# EAGLE library part CS4525 (library bnahill)
CS4525 - 30 W Digital Audio Amplifier with Integrated ADC
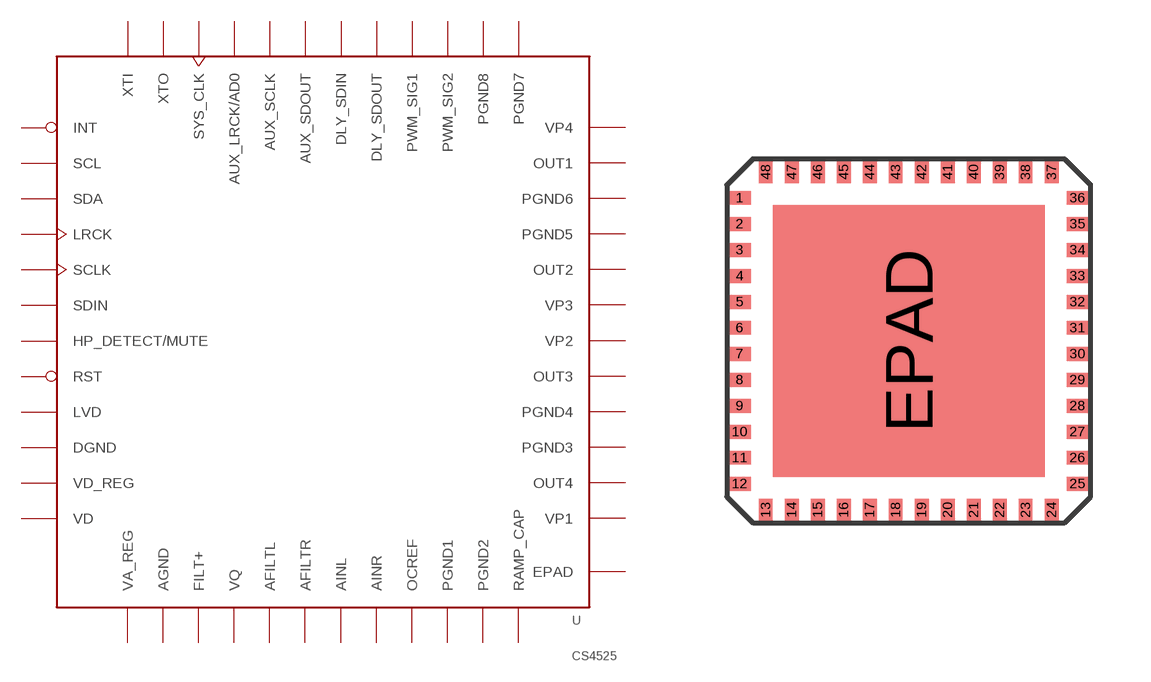
[diagram p6: symbol with the pads of QFN48-9X9; footprint QFN48-9X9]

Designator prefix -

## CS4525  [QFN48-9X9]
1  INT  in
2  SCL  in
3  SDA  in
4  LRCK  in
5  SCLK  in
6  SDIN  in
7  HP_DETECT/MUTE  in
8  RST  in
9  LVD  in
10  DGND  pwr
11  VD_REG  out
12  VD  pwr
13  VA_REG  out
14  AGND  pwr
15  FILT+  out
16  VQ  out
17  AFILTL  out
18  AFILTR  out
19  AINL  in
20  AINR  in
21  OCREF  in
22  PGND1  pwr
23  PGND2  pwr
24  RAMP_CAP  in
25  VP1  pwr
26  OUT4  out
27  PGND3  pwr
28  PGND4  pwr
29  OUT3  out
30  VP2  pwr
31  VP3  pwr
32  OUT2  out
33  PGND5  pwr
34  PGND6  pwr
35  OUT1  out
36  VP4  pwr
37  PGND7  pwr
38  PGND8  pwr
39  PWM_SIG2  out
40  PWM_SIG1  out
41  DLY_SDOUT  out
42  DLY_SDIN  out
43  AUX_SDOUT  out
44  AUX_SCLK  in
45  AUX_LRCK/AD0  in
46  SYS_CLK
47  XTO  out
48  XTI  in
EPAD  EPAD  pwr

## Footprint QFN48-9X9 (pad centres in mm)
smd 0.55 x 0.35: 1 -4.225,3.575; 2 -4.225,2.925; 3 -4.225,2.275; 4 -4.225,1.625; 5 -4.225,0.975; 6 -4.225,0.325; 7 -4.225,-0.325; 8 -4.225,-0.975; 9 -4.225,-1.625; 10 -4.225,-2.275; 11 -4.225,-2.925; 12 -4.225,-3.575; 25 4.225,-3.575; 26 4.225,-2.925; 27 4.225,-2.275; 28 4.225,-1.625; 29 4.225,-0.975; 30 4.225,-0.325; 31 4.225,0.325; 32 4.225,0.975; 33 4.225,1.625; 34 4.225,2.275; 35 4.225,2.925; 36 4.225,3.575
smd 0.35 x 0.55: 13 -3.575,-4.225; 14 -2.925,-4.225; 15 -2.275,-4.225; 16 -1.625,-4.225; 17 -0.975,-4.225; 18 -0.325,-4.225; 19 0.325,-4.225; 20 0.975,-4.225; 21 1.625,-4.225; 22 2.275,-4.225; 23 2.925,-4.225; 24 3.575,-4.225; 37 3.575,4.225; 38 2.925,4.225; 39 2.275,4.225; 40 1.625,4.225; 41 0.975,4.225; 42 0.325,4.225; 43 -0.325,4.225; 44 -0.975,4.225; 45 -1.625,4.225; 46 -2.275,4.225; 47 -2.925,4.225; 48 -3.575,4.225
smd 6.8 x 6.8: EPAD 0,0